# Altium footprint library DIP-T  0607.PCBlib: 108 footprints (part 6 of 7)
Each footprint in its own frame and in the unit in brackets; x right, y up, seen from the top. Pads: shape width x height; smd on the part's side, far side on the other; paste and mask are expansions set on the pad; w line width, h text height; cw(c..) or ccw(c..) is an arc to the next point about the centre after c.
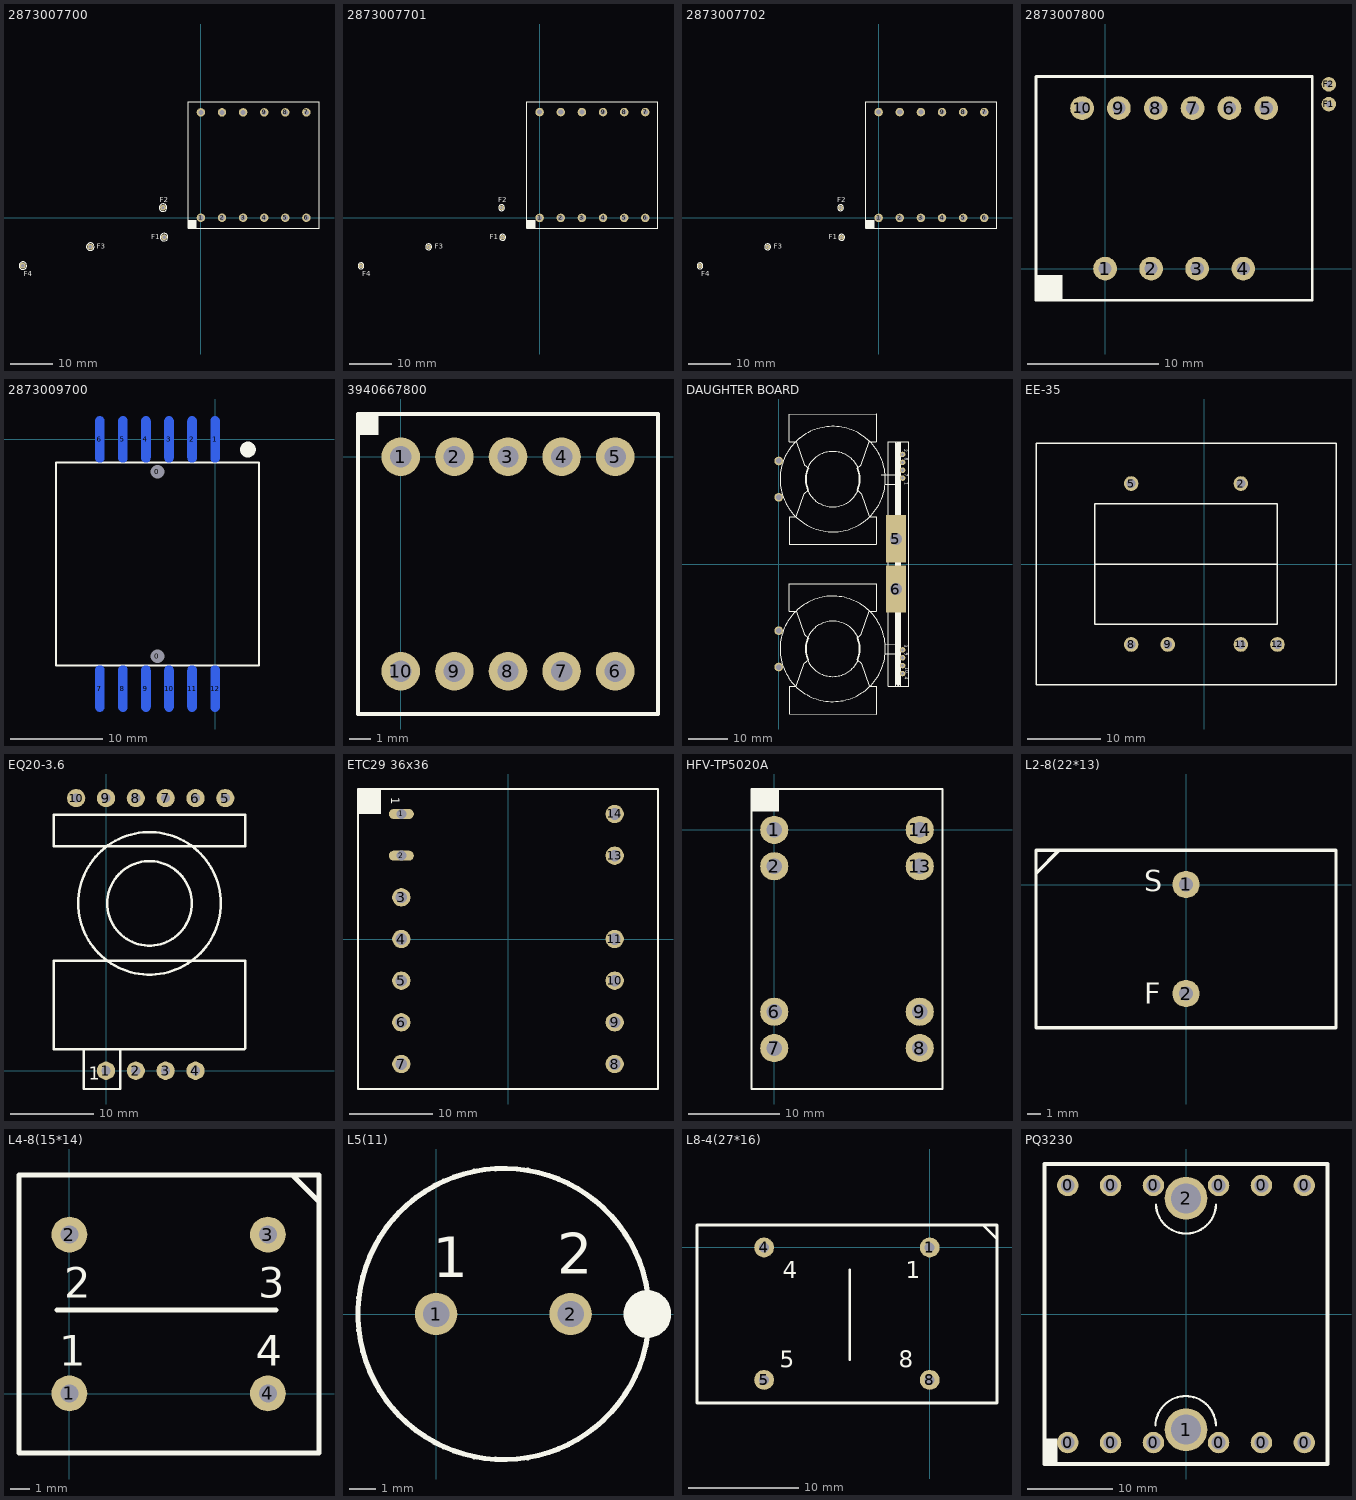
[diagram p5: the footprints below, top view; thin cyan lines are the x and y axes]

## 2873007700 [mm]
height 26
pads (16):
  round 2 hole 1.2: 1(0,0) 2(5,0) 3(10,0) 4(15,0) 5(20,0) 6(25,0) 7(25,25) 8(20,25) 9(15,25) 10(10,25) 11(5,25) 12(0,25)
  round 1.4 hole 0.8: F1(-8.74,-4.606) F2(-8.99,2.394) F3(-26.24,-6.856) F4(-42.24,-11.356)
Top Overlay:
  circle w0.2: c-8.74,-4.606 r0.901
  circle w0.2: c-26.24,-6.856 r0.901
  circle w0.2: c-8.99,2.394 r0.901
  circle w0.2: c-42.24,-11.356 r0.901
  rectangle: -3,-2.5 -1,-0.5
  lines w0.2: -3,-2.5 -3,27.5 28,27.5 28,-2.5 -3,-2.5
  text "F4" at -41.99,-13.856 h1.2
  text "F3" at -24.74,-7.356 h1.2
  text "F2" at -9.74,3.644 h1.2
  text "F1" at -11.74,-5.106 h1.2

## 2873007701 [mm]
height 26
pads (16):
  round 2 hole 1.2: 1(0,0) 2(5,0) 3(10,0) 4(15,0) 5(20,0) 6(25,0) 7(25,25) 8(20,25) 9(15,25) 10(10,25) 11(5,25) 12(0,25)
  round 1.1 hole 0.5: F1(-8.74,-4.606) F2(-8.99,2.394) F3(-26.24,-6.856) F4(-42.24,-11.356)
Top Overlay:
  circle w0.2: c-8.74,-4.606 r0.7
  circle w0.2: c-26.24,-6.856 r0.7
  circle w0.2: c-8.99,2.394 r0.7
  circle w0.2: c-42.24,-11.356 r0.7
  rectangle: -3,-2.5 -1,-0.5
  lines w0.2: -3,-2.5 -3,27.5 28,27.5 28,-2.5 -3,-2.5
  text "F4" at -41.99,-13.856 h1.2
  text "F3" at -24.74,-7.356 h1.2
  text "F2" at -9.74,3.644 h1.2
  text "F1" at -11.74,-5.106 h1.2

## 2873007702 [mm]
height 26
pads (16):
  round 2 hole 1.2: 1(0,0) 2(5,0) 3(10,0) 4(15,0) 5(20,0) 6(25,0) 7(25,25) 8(20,25) 9(15,25) 10(10,25) 11(5,25) 12(0,25)
  round 1.1 hole 0.5: F1(-8.74,-4.606) F2(-8.99,2.394) F3(-26.24,-6.856) F4(-42.24,-11.356)
Top Overlay:
  circle w0.2: c-8.74,-4.606 r0.7
  circle w0.2: c-26.24,-6.856 r0.7
  circle w0.2: c-8.99,2.394 r0.7
  circle w0.2: c-42.24,-11.356 r0.7
  rectangle: -3,-2.5 -1,-0.5
  lines w0.2: -3,-2.5 -3,27.5 28,27.5 28,-2.5 -3,-2.5
  text "F4" at -41.99,-13.856 h1.2
  text "F3" at -24.74,-7.356 h1.2
  text "F2" at -9.74,3.644 h1.2
  text "F1" at -11.74,-5.106 h1.2

## 2873007800 [mm]
height 32
pads (12):
  round 1.8 hole 1: 1(0,0) 2(3.5,0) 3(7,0) 4(10.5,0) 5(12.25,12.2) 6(9.45,12.2) 7(6.65,12.2) 8(3.85,12.2) 9(1.05,12.2) 10(-1.75,12.2)
  round 1.1 hole 0.5: F1(17,12.5) F2(17,14)
Top Overlay:
  rectangle: -5.25,-2.5 -3.25,-0.5
  lines w0.2: -5.25,-2.4 15.75,-2.4 15.75,14.6 -5.25,14.6 -5.25,-2.4

## 2873009700 [mm]
height 11.5
pads (14):
  round 1 hole 1.5 unplated: 0(-6.239,-23.508) 0(-6.239,-3.508)
  oval 1x5 smd far side: 1(0.011,-0.008) 2(-2.489,-0.008) 3(-4.989,-0.008) 4(-7.489,-0.008) 5(-9.989,-0.008) 6(-12.489,-0.008) 7(-12.489,-27.008) 8(-9.989,-27.008) 9(-7.489,-27.008) 10(-4.989,-27.008) 11(-2.489,-27.008) 12(0.011,-27.008)
Top Overlay:
  circle w1: c3.558,-1.108 r0.354
  lines w0.2: -17.239,-24.508 4.761,-24.508 4.761,-2.508 -17.239,-2.508 -17.239,-24.508
Bottom Overlay:
  rectangle: 2.001,0.485 4.001,2.735
  lines w0.2: -16.489,-29.758 4.011,-29.758 4.011,2.742 -16.489,2.742 -16.489,-29.758
  text "7" at -11.989,-31.258 h1.1
  text "8" at -9.489,-31.258 h1.1
  text "9" at -7.239,-31.258 h1.1
  text "10" at -3.989,-31.258 h1.1
  text "11" at -1.739,-31.258 h1.1
  text "12" at 0.761,-31.258 h1.1
  text "6" at -12.239,3.242 h1.1
  text "5" at -9.489,3.242 h1.1
  text "4" at -6.989,3.242 h1.1
  text "3" at -4.489,3.242 h1.1
  text "2" at -1.989,3.242 h1.1
  text "1" at 0.261,3.242 h1.1
Drill Drawing:
  lines w0.2: -15.489,-20.758 -15.489,-18.758 ; -13.989,-20.258 -15.489,-19.758 ; -13.989,-19.258 -15.489,-19.758 ; -8.646,-19.758 -15.489,-19.758 ; -3.831,-19.758 3.011,-19.758 ; 1.511,-20.258 3.011,-19.758 ; 1.511,-19.258 3.011,-19.758 ; 3.011,-20.758 3.011,-18.758 ; 5.261,-24.258 7.261,-24.258 ; 5.261,-2.758 7.261,-2.758 ; 5.761,-22.758 6.261,-24.258 ; 5.761,-4.258 6.261,-2.758 ; 6.261,-22.208 6.261,-24.258 ; 6.261,-16.548 6.261,-14.008 ; 6.261,-16.058 6.261,-14.008 ; 6.261,-10.958 6.261,-13.008 ; 6.261,-10.468 6.261,-13.008 ; 6.261,-4.808 6.261,-2.758 ; 6.761,-22.758 6.261,-24.258 ; 6.761,-4.258 6.261,-2.758 ; 6.261,-14.008 5.761,-15.508 6.261,-14.008 ; 6.261,-14.008 6.761,-15.508 6.261,-14.008 ; 6.261,-13.008 5.761,-11.508 6.261,-13.008 ; 6.261,-13.008 6.761,-11.508 6.261,-13.008 ; -16.989,-23.758 ccw(c-16.489,-23.758) -16.489,-24.258 4.011,-24.258 ccw(c4.011,-23.758) 4.511,-23.758 4.511,-14.758 ccw(c3.761,-14.758) 3.011,-14.758 3.011,-22.258 cw(c2.511,-22.258) 2.511,-22.758 -14.989,-22.758 cw(c-14.989,-22.258) -15.489,-22.258 -15.489,-14.758 ccw(c-16.239,-14.758) -16.989,-14.758 -16.989,-23.758 ; -16.989,-12.258 ccw(c-16.239,-12.258) -15.489,-12.258 -15.489,-4.758 cw(c-14.989,-4.758) -14.989,-4.258 2.261,-4.258 cw(c2.261,-5.008) 3.011,-5.008 3.011,-12.258 ccw(c3.761,-12.258) 4.511,-12.258 4.511,-3.258 ccw(c4.011,-3.258) 4.011,-2.758 -16.489,-2.758 ccw(c-16.489,-3.258) -16.989,-3.258 -16.989,-12.258 ; 5.261,-14.008 7.261,-14.008 5.261,-14.008 ; 5.261,-13.008 7.261,-13.008 5.261,-13.008
  text "(ROUT=1.5 NPTH)*2" at -14.239,-14.758 h1.2
  text "18.5" at -8.392,-20.708 h1.5
  text "10.25" at 7.211,-10.704 h1.5
  text "1" at 10.061,-13.887 h1.5
  text "10.25" at 7.211,-21.954 h1.5

## 3940667800 [mm]
pads (10):
  round 1.8 hole 1: 1(0,0) 2(2.5,0) 3(5,0) 4(7.5,0) 5(10,0) 6(10,-10) 7(7.5,-10) 8(5,-10) 9(2.5,-10) 10(0,-10)
Top Overlay:
  region: -1.983,1.988 -1.983,1.025 -1.05,1.025 -1.05,1.988
  lines w0.2: -2,-12 -2,2 12,2 12,-12 -2,-12

## DAUGHTER BOARD [mm]
pads (14):
  round 1.4 hole 0.8: 1(31.389,21.761) 2(31.389,27.761) 3(31.389,-21.739) 4(31.389,-27.739) 7(31.389,23.761) 8(31.389,25.761) 9(31.389,-23.739) 10(31.389,-25.739)
  rect 5x12 hole 3: 5(29.689,6.361) 6(29.689,-6.339)
  round 2.2 hole 1.4: p11(-0.011,26.111) p12(-0.011,16.911) p21(-0.011,-16.889) p22(-0.011,-26.089)
Top Overlay:
  circle w0.2: c13.689,-21.489 r7
  circle w0.2: c13.689,21.511 r7
  lines w0.2: 4.373,-11.926 cw(c13.689,-21.489) 23.15,-12.07 ; 4.373,31.074 cw(c13.689,21.511) 23.15,30.93 ; 5.195,-11.19 ccw(c13.689,-21.489) 22.457,-11.422 ; 5.195,31.81 ccw(c13.689,21.511) 22.457,31.578 ; 7.527,-24.244 cw(c13.689,-21.489) 7.527,-18.733 ; 7.527,18.756 cw(c13.689,21.511) 7.527,24.267 ; 7.539,-24.239 6.419,-25.189 4.439,-30.989 2.689,-30.989 2.689,-37.989 24.689,-37.989 24.689,-30.989 22.939,-30.989 20.959,-25.189 19.839,-24.239 ; 7.539,18.761 6.419,17.811 4.439,12.011 2.689,12.011 2.689,5.011 24.689,5.011 24.689,12.011 22.939,12.011 20.959,17.811 19.839,18.761 ; 19.839,-18.739 20.959,-17.789 22.939,-11.989 24.689,-11.989 24.689,-4.989 2.689,-4.989 2.689,-11.989 4.439,-11.989 6.419,-17.789 ; 19.839,24.261 20.959,25.211 22.939,31.011 24.689,31.011 24.689,38.011 2.689,38.011 2.689,31.011 4.439,31.011 6.419,25.211 ; 19.851,-24.244 ccw(c13.689,-21.489) 19.851,-18.733 ; 19.851,18.756 ccw(c13.689,21.511) 19.851,24.267 ; 29.689,-30.939 29.689,30.961 32.889,30.961 32.889,-30.939 27.689,-30.939 27.689,30.961 30.889,30.961 30.889,-30.939 ; 6.419,-17.789 7.539,-18.739 6.419,-17.789 ; 6.419,25.211 7.539,24.261 6.419,25.211 ; 7.419,-18.989 7.419,-18.989 ; 7.419,24.011 7.419,24.011
  lines w0.254: 26.01,22.626 30.836,22.626 ; 26.91,-20.374 30.889,-20.389 ; 27.037,-22.787 30.889,-22.789 ; 27.037,20.213 30.789,20.211
  lines w1.2: 30.289,-30.289 30.289,30.411
  text "7" at 31.889,22.811 h0.8
  text "8" at 31.889,26.911 h0.8
  text "2" at 31.789,29.111 h0.8
  text "1" at 31.889,20.711 h0.8
  text "9" at 31.889,-22.489 h0.8
  text "3" at 31.789,-20.389 h0.8
  text "4" at 31.889,-28.589 h0.8
  text "10" at 31.989,-26.189 h0.8
Drill Drawing:
  lines w0.1: 28.189,-10.739 28.189,-2.039 ; 28.189,-10.646 ccw(c29.688,-10.602) 31.186,-10.516 ; 28.189,-2.153 cw(c29.687,-2.068) 31.186,-2.023 ; 28.189,1.961 28.189,10.661 ; 28.189,2.054 ccw(c29.688,2.098) 31.186,2.184 ; 28.189,10.547 cw(c29.687,10.632) 31.186,10.677 ; 31.189,-10.739 31.189,-2.039 ; 31.189,1.961 31.189,10.661

## EE-35 [mm] "X?"
height 30
pads (6):
  round 2 hole 1.2: 2(5,11) 5(-10,11) 8(-10,-11) 9(-5,-11) 11(5,-11) 12(10,-11)
Top Overlay:
  lines w0.2: -15,0 -15,8.25 10,8.25 10,0 ; -15,0 -15,-8.25 10,-8.25 10,0 ; -15,0 10,0 ; -23,-16.5 18,-16.5 18,16.5 -23,16.5 -23,-16.5

## EQ20-3.6 [mm]
pads (14):
  round 0 on Top Overlay: 1(-3.501,32.898) 2(1.499,32.898) 3(6.499,32.898) 5(21.499,32.898)
  round 2.2 hole 1.1: 1(-0.012,0.009) 2(3.588,0.009) 3(7.188,0.009) 4(10.788,0.009) 5(14.388,32.909) 6(10.788,32.909) 7(7.188,32.909) 8(3.588,32.909) 9(-0.012,32.909) 10(-3.612,32.909)
Top Overlay:
  circle w0.3: c5.238,20.209 r8.6
  circle w0.3: c5.238,20.209 r5.1
  lines w0.3: -2.712,2.609 -2.712,-2.191 1.688,-2.191 1.688,2.609 ; -6.312,2.609 -6.312,13.309 16.788,13.309 16.788,2.709 16.688,2.609 11.988,2.609 -2.012,2.609 -6.312,2.609 ; -6.312,27.109 -6.312,30.909 16.788,30.909 16.788,27.109 -6.312,27.109
  text "1" at -2.112,-1.091 h1.52

## ETC29 36x36 [mm] "SMT-19H-946A"
height 14.85
pads (13):
  oval 3x1.2 hole 1.2: 1(-12.8,15) 2(-12.8,10)
  round 2.2 hole 1.4: 3(-12.8,5) 4(-12.8,0) 5(-12.8,-5) 6(-12.8,-10) 7(-12.8,-15) 8(12.8,-15) 9(12.8,-10) 10(12.8,-5) 11(12.8,0) 13(12.8,10) 14(12.8,15)
Top Overlay:
  rectangle: -17.925,15 -15.25,18
  lines w0.2: -18,-18 -18,18 18,18 18,-18 -18,-18
  text "1" at -14,17 h1

## HFV-TP5020A [mm] "2805683101"
height 29
pads (8):
  round 3.1 hole 1.7: 1(0,0) 2(0,-4) 6(0,-20) 7(0,-24) 8(16,-24) 9(16,-20) 13(16,-4) 14(16,0)
Top Overlay:
  rectangle: -2.5,2 0.5,4.5
  lines w0.2: -2.5,-28.5 -2.5,4.5 18.5,4.5 18.5,-28.5 -2.5,-28.5

## L2-8(22*13) [mm]
pads (2):
  round 2 hole 1: 1(-0.009,0.011) 2(-0.009,-7.989)
Top Overlay:
  lines w0.254: -11.009,0.9 -10.931,0.9 -9.32,2.511 -9.28,2.511 ; -11.009,-10.489 10.991,-10.489 10.991,2.511 -11.009,2.511 -11.009,-10.489
  text "S" at -3.057,-0.497 h1.52
  text "F" at -3.057,-8.752 h1.52

## L4-8(15*14) [mm]
pads (4):
  round 1.8 hole 0.9: 1(0.003,0.012) 2(0.003,8.012) 3(10.003,8.012) 4(10.003,0.012)
Top Overlay:
  lines w0.254: -0.632,4.203 10.417,4.203 ; 11.052,11.012 11.228,11.012 12.576,9.664 ; -2.537,-2.988 -2.537,11.012 12.576,11.012 12.576,-2.988 -2.537,-2.988
  text "2" at -0.251,4.838 h1.52
  text "3" at 9.528,4.838 h1.52
  text "1" at -0.505,1.409 h1.52
  text "4" at 9.401,1.409 h1.52

## L5(11) [mm]
pads (2):
  round 1.6 hole 1: 1(-0.003,0.01) 2(5.077,0.01)
Top Overlay:
  circle w1: c7.979,0.01 r0.4
  circle w0.2: c2.548,0.01 r5.5
  text "2" at 4.569,1.534 h1.52
  text "1" at -0.13,1.407 h1.52

## L8-4(27*16) [mm]
pads (4):
  round 1.8 hole 0.9: 1(0.013,-0.007) 4(-14.987,-0.007) 5(-14.987,-12.007) 8(0.013,-12.007)
Top Overlay:
  lines w0.254: -7.226,-10.167 -7.226,-2.039 ; 4.585,2.025 4.839,2.025 6.109,0.755 ; -21.069,-14.104 -21.069,2.025 6.109,2.025 6.109,-14.104 -21.069,-14.104
  text "4" at -13.322,-2.801 h1.52
  text "5" at -13.576,-10.929 h1.52
  text "8" at -2.781,-10.929 h1.52
  text "1" at -2.146,-2.801 h1.52

## PQ3230 [mm]
height 32
pads (14):
  round 2.5 hole 1.6: 0(-13.8,-15) 0(-13.8,15) 0(-8.8,-15) 0(-8.8,15) 0(-3.8,-15) 0(-3.8,15) 0(3.8,-15) 0(3.8,15) 0(8.8,-15) 0(8.8,15) 0(13.8,-15) 0(13.8,15)
  round 5 hole 3.5: 1(0,-13.5) 2(0,13.5)
Top Overlay:
  rectangle: -16.25,-17.25 -15,-14.5
  lines w0.254: -3.564,-13.008 cw(c-0.032,-13.111) 3.5,-13 ; -3.494,12.743 ccw(c0.003,12.89) 3.5,12.75
  lines w0.5: -16.5,-17.5 16.5,-17.5 16.5,17.5 -16.5,17.5 -16.5,-17.5